# Altium schematic symbol library MAX_MAX1510ETB.SchLib: 1 symbol
Pins are listed as number, name and electrical type; pins without a type are passive.

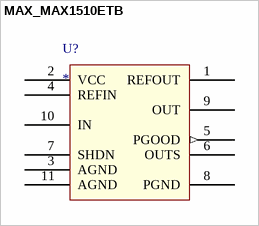
[diagram p0: symbol MAX_MAX1510ETB]

## MAX_MAX1510ETB
designator U?
pins: 1 REFOUT (power), 2 VCC (power), 3 AGND (power), 4 REFIN (power), 5 PGOOD (out), 6 OUTS, 7 SHDN (power), 8 PGND (power), 9 OUT, 10 IN (power), 11 AGND (power)